# Altium schematic symbol library ALTAIR_PD_ClockParts.SchLib: 2 symbols
Pins are listed as number, name and electrical type; pins without a type are passive.

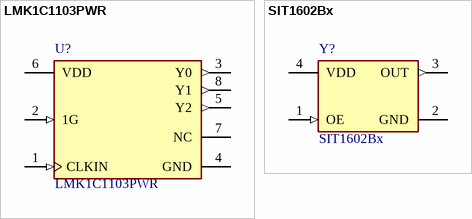
[diagram p0: symbols LMK1C1103PWR to SIT1602Bx]

## LMK1C1103PWR
designator U?
LVCMOS CLOCK BUFFER 3-CHANNEL
footprint 8-TSSOP 0.65MM PITCH 4.4MM WIDTH IPC MID DENSITY (FP-PW0008A-IPC_B, Texas Instruments branding)
pins: 1 CLKIN (in), 2 1G (in), 3 Y0 (out), 4 GND (power), 5 Y2 (out), 6 VDD (power), 7 NC, 8 Y1 (out)

## SIT1602Bx
designator Y?
MEMS OSC XO 33.33333MHZ H/LVCMOS; Frequency Stability: 50ppm; Max Supply Current: 4.5mA; Min Operating Temperature: -20°C; RoHS Compliant: Yes; Max Operating Temperature: 70°C; Length: 0.126inch; Frequency: 33.33333MHz; Width: 0.098inch; Height: 0.032inch; Mount: Surface Mount; Series: SIT1602; Packaging: Tape and Reel; Case/Package: SMD/SMT
footprint 4PQFN NON-IPC SITIME (FP-SiT1602-2-MFG)
pins: 1 OE (in), 2 GND (power), 3 OUT (out), 4 VDD (power)